# Altium schematic symbol library Schlib_Amphenol.SchLib: 3 symbols
Pins are listed as number, name and electrical type; pins without a type are passive.

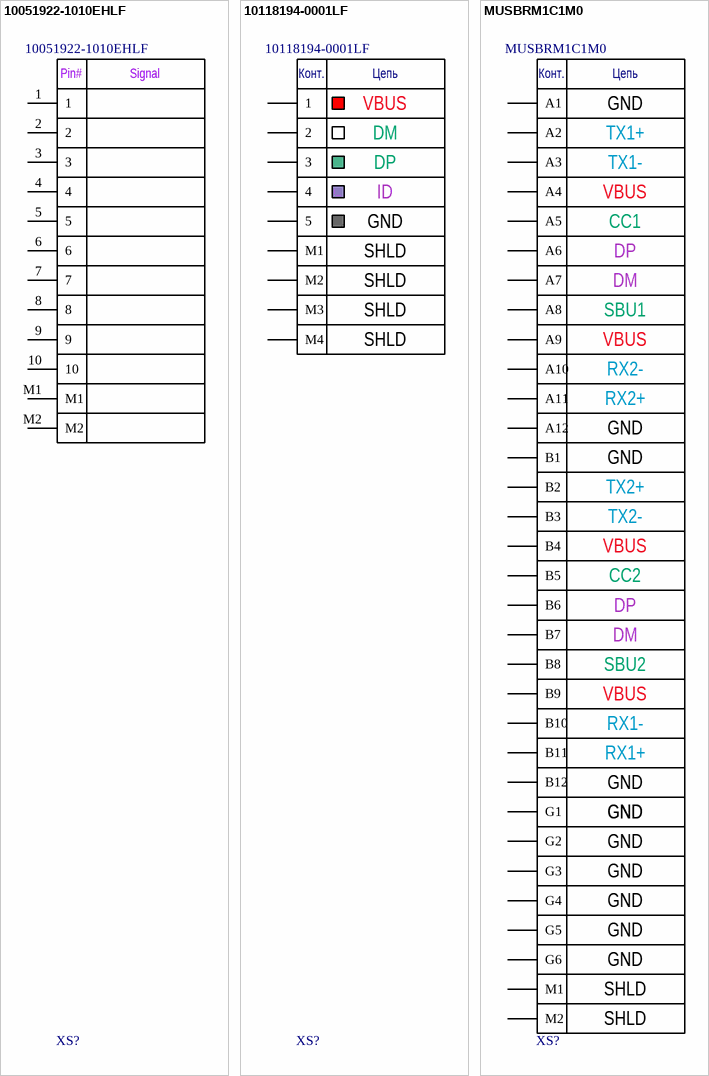
[diagram p0: symbols 10051922-1010EHLF to MUSBRM1C1M0]

## 10051922-1010EHLF
designator XS?
0.50mm Flex Connector, VLL Series, 10 Position, Lower Side Contact, Side Entry Surface Mount ZIF Connector; Manufacturer: Amphenol ICC (FCI); Part Number: 10051922-1010EHLF; Author: Sklyarov
footprint 10051922-1010EHLF (CONN FPC/FFC 10POS .5MM)
pins: 1, 2, 3, 4, 5, 6, 7, 8, 9, 10, M1, M2
text: Pin#; Signal

## 10118194-0001LF
designator XS?
USB - micro B USB 2.0 Receptacle Connector 5 Position Surface Mount, Right Angle; Through Hole; Manufacturer: Amphenol ICC (FCI); Part Number: 10118194-0001LF; Author: Sklyarov
footprint 10118194-0001LF
pins: 1, 2, 3, 4, 5, M1, M2, M3, M4
text: Конт.; Цепь; VBUS; DM; DP; ID; GND; SHLD

## MUSBRM1C1M0
designator XS?
USB-C (USB TYPE-C) Receptacle Connector 24 Position Panel Mount, Through Hole, Right Angle; Manufacturer: Amphenol ICC (Commercial Products); Part Number: MUSBRM1C1M0; Author: Rodionov
footprint MUSBR-M1C1-X0
pins: A1, A2, A3, A4, A5, A6, A7, A8, A9, A10, A11, A12, B1, B2, B3, B4, B5, B6, B7, B8, B9, B10, B11, B12, G1, G2, G3, G4, G5, G6, M1, M2
text: Конт.; Цепь; GND; TX1+; TX1-; VBUS; CC1; DP; DM; SBU1; RX2-; RX2+; TX2+; TX2-; CC2; SBU2; RX1-; RX1+; SHLD